# EAGLE library part IS65C1024AL-* (library memory-issi-asynsram)
128k x 8 high- speed CMOS static RAM 45ns access time 5V power supply
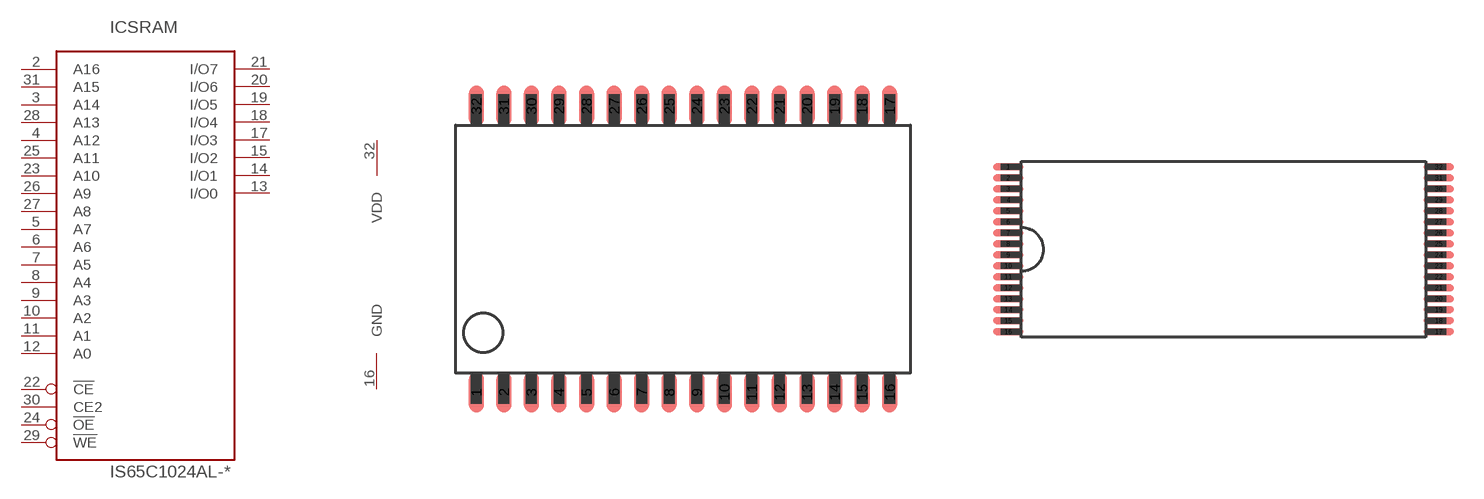
[diagram p10: symbol with the pads of SOP32-450MIL; footprints SOP32-450MIL, TSOP-I-32-8X20MM]

Designator prefix IC; gates SRAM=128KX8_TYP2 PWR=PWR_VDD1_GND1

## IS65C1024AL-45Q  [SOP32-450MIL]
2  SRAM:A16  in
3  SRAM:A14  in
4  SRAM:A12  in
5  SRAM:A7  in
6  SRAM:A6  in
7  SRAM:A5  in
8  SRAM:A4  in
9  SRAM:A3  in
10  SRAM:A2  in
11  SRAM:A1  in
12  SRAM:A0  in
13  SRAM:I/O0  hiz
14  SRAM:I/O1  hiz
15  SRAM:I/O2  hiz
16  PWR:GND  pwr
17  SRAM:I/O3  hiz
18  SRAM:I/O4  hiz
19  SRAM:I/O5  hiz
20  SRAM:I/O6  hiz
21  SRAM:I/O7  hiz
22  SRAM:!CE  in
23  SRAM:A10  in
24  SRAM:!OE  in
25  SRAM:A11  in
26  SRAM:A9  in
27  SRAM:A8  in
28  SRAM:A13  in
29  SRAM:!WE  in
30  SRAM:CE2  in
31  SRAM:A15  in
32  PWR:VDD  pwr

## IS65C1024AL-45T  [TSOP-I-32-8X20MM]
1  SRAM:A11  in
2  SRAM:A9  in
3  SRAM:A8  in
4  SRAM:A13  in
5  SRAM:!WE  in
6  SRAM:CE2  in
7  SRAM:A15  in
8  PWR:VDD  pwr
10  SRAM:A16  in
11  SRAM:A14  in
12  SRAM:A12  in
13  SRAM:A7  in
14  SRAM:A6  in
15  SRAM:A5  in
16  SRAM:A4  in
17  SRAM:A3  in
18  SRAM:A2  in
19  SRAM:A1  in
20  SRAM:A0  in
21  SRAM:I/O0  hiz
22  SRAM:I/O1  hiz
23  SRAM:I/O2  hiz
24  PWR:GND  pwr
25  SRAM:I/O3  hiz
26  SRAM:I/O4  hiz
27  SRAM:I/O5  hiz
28  SRAM:I/O6  hiz
29  SRAM:I/O7  hiz
30  SRAM:!CE  in
31  SRAM:A10  in
32  SRAM:!OE  in

## Footprint SOP32-450MIL (pad centres in mm)
SOP32-450mil 32-pin small-outline package
smd 0.7 x 1.9: 1 -9.525,-6.59; 2 -8.255,-6.59; 3 -6.985,-6.59; 4 -5.715,-6.59; 5 -4.445,-6.59; 6 -3.175,-6.59; 7 -1.905,-6.59; 8 -0.635,-6.59; 9 0.635,-6.59; 10 1.905,-6.59; 11 3.175,-6.59; 12 4.445,-6.59; 13 5.715,-6.59; 14 6.985,-6.59; 15 8.255,-6.59; 16 9.525,-6.59; 17 9.525,6.59; 18 8.255,6.59; 19 6.985,6.59; 20 5.715,6.59; 21 4.445,6.59; 22 3.175,6.59; 23 1.905,6.59; 24 0.635,6.59; 25 -0.635,6.59; 26 -1.905,6.59; 27 -3.175,6.59; 28 -4.445,6.59; 29 -5.715,6.59; 30 -6.985,6.59; 31 -8.255,6.59; 32 -9.525,6.59

## Footprint TSOP-I-32-8X20MM (pad centres in mm)
TSOP-I-32 32-pin thin small-outline package, Typ I
smd 1.4 x 0.33: 1 -9.8,3.75; 2 -9.8,3.25; 3 -9.8,2.75; 4 -9.8,2.25; 5 -9.8,1.75; 6 -9.8,1.25; 7 -9.8,0.75; 8 -9.8,0.25; 9 -9.8,-0.25; 10 -9.8,-0.75; 11 -9.8,-1.25; 12 -9.8,-1.75; 13 -9.8,-2.25; 14 -9.8,-2.75; 15 -9.8,-3.25; 16 -9.8,-3.75; 17 9.8,-3.75; 18 9.8,-3.25; 19 9.8,-2.75; 20 9.8,-2.25; 21 9.8,-1.75; 22 9.8,-1.25; 23 9.8,-0.75; 24 9.8,-0.25; 25 9.8,0.25; 26 9.8,0.75; 27 9.8,1.25; 28 9.8,1.75; 29 9.8,2.25; 30 9.8,2.75; 31 9.8,3.25; 32 9.8,3.75